# EAGLE library part IP4220CZ6 (library NXP_By_element14_Batch_1)
Dual Schmitt-Trigger Inverter
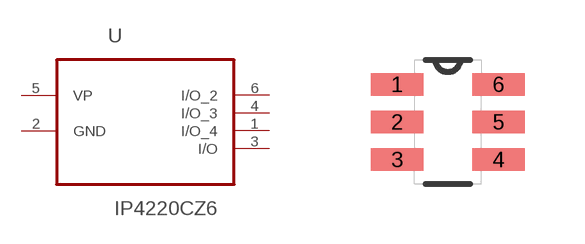
[diagram p292: symbol with the pads of SOT95P275X110-6N; footprint SOT95P275X110-6N]

Designator prefix U

## IP4220CZ6 (MPN: IP4220CZ6; OC_FARNELL: 1506629; OC_NEWARK: 61M6815; P1I: o; PACKAGE: SSOT-6; SUPPLIER: NXP)  [SOT95P275X110-6N]
1  I/O_4
2  GND  pas
3  I/O
4  I/O_3
5  VP  pwr
6  I/O_2

## Footprint SOT95P275X110-6N (pad centres in mm)
smd 1.321 x 0.559: 1 -1.27,0.94; 2 -1.27,0; 3 -1.27,-0.94; 4 1.27,-0.94; 5 1.27,0; 6 1.27,0.94